# Altium footprint library AAL8861Y-13.PcbLib: 1 footprints
Each footprint in its own frame and in the unit in brackets; x right, y up, seen from the top. Pads: shape width x height; smd on the part's side, far side on the other; paste and mask are expansions set on the pad; w line width, h text height; cw(c..) or ccw(c..) is an arc to the next point about the centre after c.
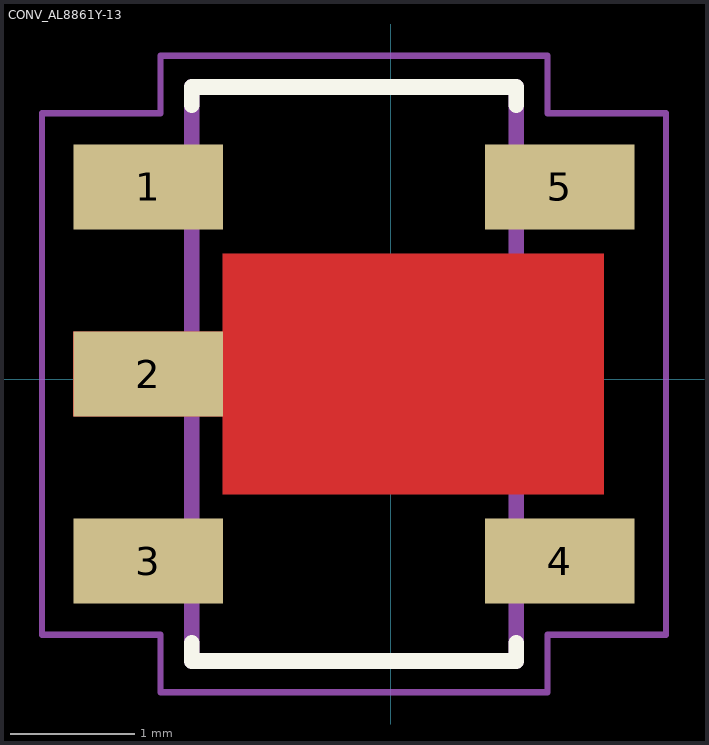
[diagram p0: the footprint, top view; thin cyan lines are the x and y axes]

## CONV_AL8861Y-13 [mm]
pads (5):
  rect 1.2x0.68 smd: 1(-1.945,1.543) 3(-1.945,-1.457) 4(1.355,-1.457) 5(1.355,1.543)
  rect 1.2x0.68 smd paste-2 mask+0: 2(-1.945,0.043)
Top Layer:
  region: 1.705,-0.922 -1.345,-0.922 -1.345,-0.297 -2.545,-0.297 -2.545,0.383 -1.345,0.383 -1.345,1.008 1.705,1.008
Top Overlay:
  lines w0.127: -1.595,-2.111 -1.595,-2.257 1.005,-2.257 1.005,-2.111 ; -1.595,2.197 -1.595,2.343 1.005,2.343 1.005,2.197
Mechanical 13:
  lines w0.127: -1.595,-2.257 1.005,-2.257 1.005,2.343 -1.595,2.343 -1.595,-2.257
Mechanical 15:
  lines w0.05: -2.795,-2.047 -1.845,-2.047 -1.845,-2.507 1.255,-2.507 1.255,-2.047 2.205,-2.047 2.205,2.133 1.255,2.133 1.255,2.593 -1.845,2.593 -1.845,2.133 -2.795,2.133 -2.795,-2.047
3D body "SOT89-5.step": height 1.55, standoff 0.01, extent -2.25,-2.25 2.25,2.25